# EAGLE library part WE-LAN-10/100-BASE-T,POE+,7490120110 (library Wurth_Elektronik_EMC_COMPONENTS_rev16c)
WE-LAN LAN Transformer 10/100 Base T - Compliant with IEEE 802.3, IEEE 802.3af and IEEE 802.3at standards - SMT -- Ethernet -- Power over Ethernet -- 1 Gigabit Ethernet -- Compliant with most IC's for ethernet applications like Intel, AMD, Globespan and Realtek -- Hub, Router, Switch <http://katalog.we-online.de/media/images/v2/Family_WE-LAN.jpg> Details see: http://katalog.we-online.de/en/pbs/WE-LAN/S 2016 (C) Würth Elektronik
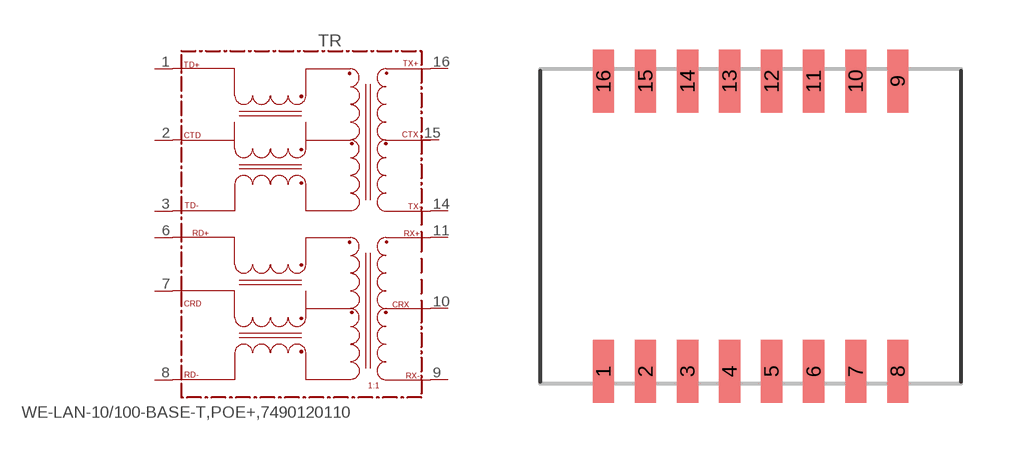
[diagram p223: symbol with the pads of 7490120110; footprint 7490120110]

Designator prefix TR

## WE-LAN-10/100-BASE-T,POE+,7490120110  [7490120110]
1  1
2  2
3  3
6  6
7  7
8  8
9  9
10  10
11  11
14  14
15  15
16  16

## Footprint 7490120110 (pad centres in mm)
smd 0.64 x 1.91: 1 -4.445,-4.385; 2 -3.175,-4.385; 3 -1.905,-4.385; 4 -0.635,-4.385; 5 0.635,-4.385; 6 1.905,-4.385; 7 3.175,-4.385; 8 4.445,-4.385; 9 4.445,4.385; 10 3.175,4.385; 11 1.905,4.385; 12 0.635,4.385; 13 -0.635,4.385; 14 -1.905,4.385; 15 -3.175,4.385; 16 -4.445,4.385